# EAGLE library part ADS129X (library lib_stankus)
Texas Instruments ADS129X
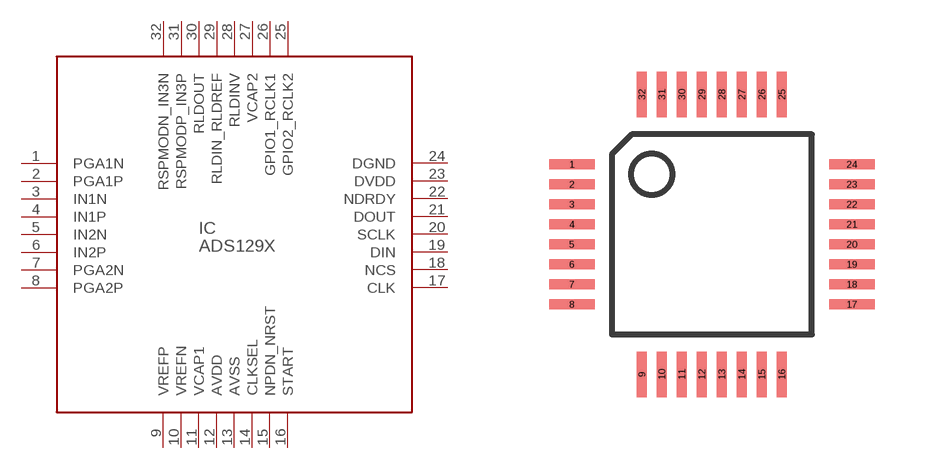
[diagram p91: symbol with the pads of QFP32_5_05; footprint QFP32_5_05]

Designator prefix IC

## ADS129X-QFP32  [QFP32_5_05]
1  PGA1N  pas
2  PGA1P  pas
3  IN1N  pas
4  IN1P  pas
5  IN2N  pas
6  IN2P  pas
7  PGA2N  pas
8  PGA2P  pas
9  VREFP  pas
10  VREFN  pas
11  VCAP1  pas
12  AVDD  pas
13  AVSS  pas
14  CLKSEL  pas
15  NPDN_NRST  pas
16  START  pas
17  CLK  pas
18  NCS  pas
19  DIN  pas
20  SCLK  pas
21  DOUT  pas
22  NDRDY  pas
23  DVDD  pas
24  DGND  pas
25  GPIO2_RCLK2  pas
26  GPIO1_RCLK1  pas
27  VCAP2  pas
28  RLDINV  pas
29  RLDIN_RLDREF  pas
30  RLDOUT  pas
31  RSPMODP_IN3P  pas
32  RSPMODN_IN3N  pas

## Footprint QFP32_5_05 (pad centres in mm)
QFP32, 5x5 MM, 0.5 MM
smd 1.143 x 0.254: 1 -3.5,1.75; 2 -3.5,1.25; 3 -3.5,0.75; 4 -3.5,0.25; 5 -3.5,-0.25; 6 -3.5,-0.75; 7 -3.5,-1.25; 8 -3.5,-1.75; 17 3.5,-1.75; 18 3.5,-1.25; 19 3.5,-0.75; 20 3.5,-0.25; 21 3.5,0.25; 22 3.5,0.75; 23 3.5,1.25; 24 3.5,1.75
smd 0.254 x 1.143: 9 -1.75,-3.5; 10 -1.25,-3.5; 11 -0.75,-3.5; 12 -0.25,-3.5; 13 0.25,-3.5; 14 0.75,-3.5; 15 1.25,-3.5; 16 1.75,-3.5; 25 1.75,3.5; 26 1.25,3.5; 27 0.75,3.5; 28 0.25,3.5; 29 -0.25,3.5; 30 -0.75,3.5; 31 -1.25,3.5; 32 -1.75,3.5